# Altium footprint library Generic 1812 Capacitor.PcbLib: 1 footprints
Each footprint in its own frame and in the unit in brackets; x right, y up, seen from the top. Pads: shape width x height; smd on the part's side, far side on the other; paste and mask are expansions set on the pad; w line width, h text height; cw(c..) or ccw(c..) is an arc to the next point about the centre after c.
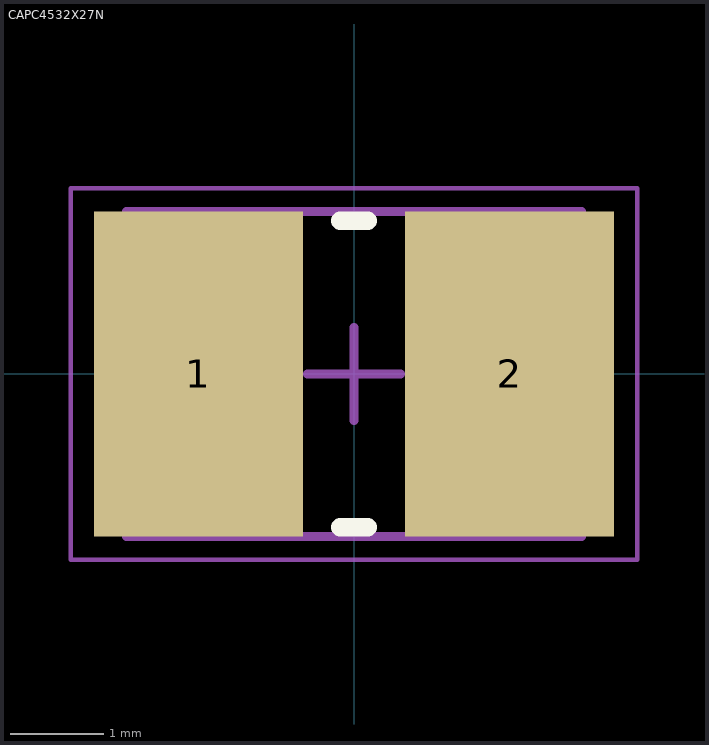
[diagram p0: the footprint, top view; thin cyan lines are the x and y axes]

## CAPC4532X27N [mm] "Chip Capacitor, 2-Leads, Body 4.50x3.20mm, IPC Medium Density"
height 2.7
pads (2):
  rect 2.25x3.5 smd: 1(-1.675,0) 2(1.675,0)
Top Overlay:
  lines w0.2: -0.15,-1.65 0.15,-1.65 ; -0.15,1.65 0.15,1.65
Mechanical 13:
  lines w0.1: -2.45,-1.75 2.45,-1.75 2.45,1.75 -2.45,1.75 -2.45,-1.75
Mechanical 15:
  lines w0.05: -3.05,-2 3.05,-2 3.05,2 -3.05,2 -3.05,-2
  lines w0.1: -0.5,0 0.5,0 ; 0,-0.5 0,0.5
3D body: height 2.7, standoff 0, extent 1.55,-1.75 2.45,1.75
3D body: height 2.7, standoff 0, extent -2.45,-1.75 -1.55,1.75
3D body: height 2.7, standoff 0, extent -1.55,-1.75 1.55,1.75